# Altium footprint library JST XH B7B-XH-A.PCBLIB: 1 footprints
Each footprint in its own frame and in the unit in brackets; x right, y up, seen from the top. Pads: shape width x height; smd on the part's side, far side on the other; paste and mask are expansions set on the pad; w line width, h text height; cw(c..) or ccw(c..) is an arc to the next point about the centre after c.
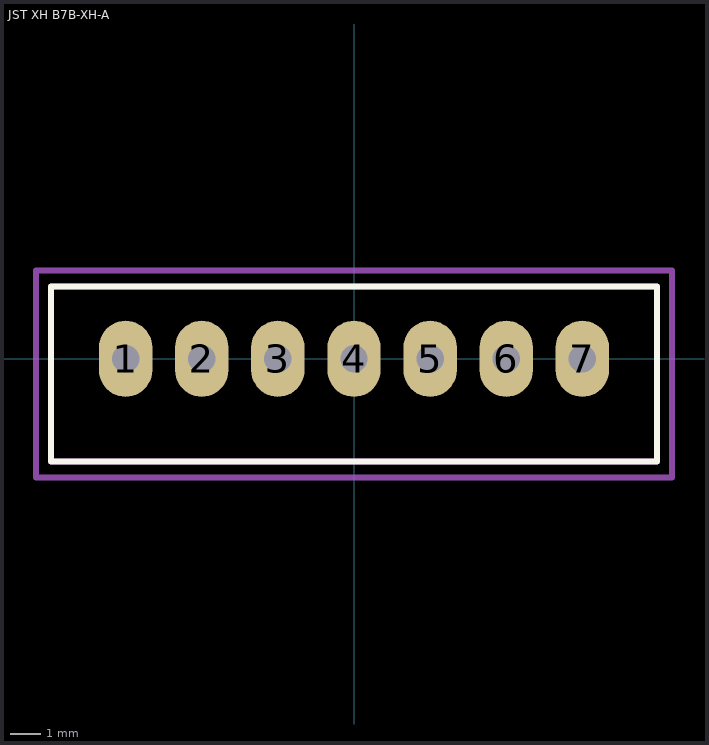
[diagram p0: the footprint, top view; thin cyan lines are the x and y axes]

## JST XH B7B-XH-A [mm]
height 7
pads (7):
  oval 1.75x2.5 hole 0.9: 1(-7.5,0) 2(-5,0) 3(-2.5,0) 4(0,0) 5(2.5,0) 6(5,0) 7(7.5,0)
Top Overlay:
  lines w0.2: -9.95,-3.375 9.95,-3.375 9.95,2.375 -9.95,2.375 -9.95,-3.375
Mechanical 1:
  lines w0.2: -9.95,-3.375 -9.95,2.375 9.95,2.375 9.95,-3.375 -9.95,-3.375
Mechanical 15:
  lines w0.2: -0.5,0 0.5,0 ; 0,-0.5 0,0.5 ; -10.45,-3.9 10.45,-3.9 10.45,2.9 -10.45,2.9 -10.45,-3.9
3D body "JST B7B-XH-A.STEP": height 7, standoff -3.4, extent -9.95,-3.375 9.95,2.375